# Altium footprint library 5vto3.3v.PcbLib: 6 footprints
Each footprint in its own frame and in the unit in brackets; x right, y up, seen from the top. Pads: shape width x height; smd on the part's side, far side on the other; paste and mask are expansions set on the pad; w line width, h text height; cw(c..) or ccw(c..) is an arc to the next point about the centre after c.
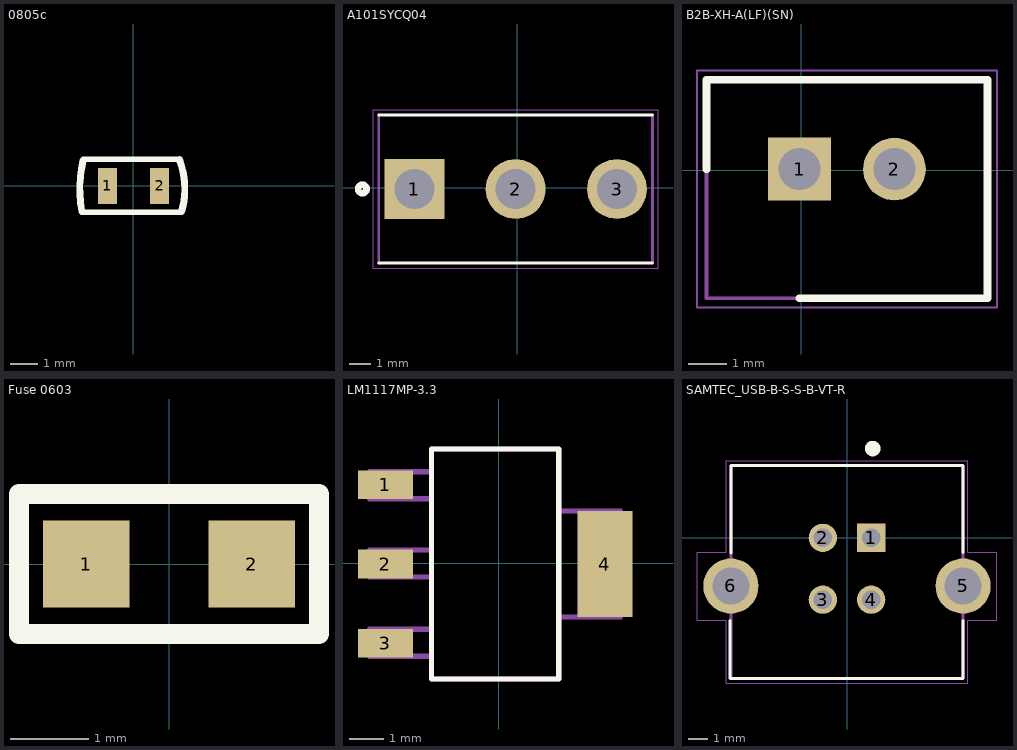
[diagram p0: the footprints below, top view; thin cyan lines are the x and y axes]

## 0805c [mm]
pads (2):
  rect 0.7x1.3 smd: 1(-0.95,0) 2(0.95,0)
Top Overlay:
  lines w0.2: -1.884,-0.955 1.725,-0.955 ; -1.834,0.98 1.679,0.98
  lines w0.254: -1.884,-0.911 cw(c2.397,-0.111) -1.834,0.919 ; 1.672,0.954 cw(c-1.151,-0.11) 1.752,-0.929

## A101SYCQ04 [mil]
pads (3):
  rect 109.5x109.5 hole 73: 1(-188,-2)
  round 109.5 hole 73: 2(-3,-2) 3(182,-2)
Top Overlay:
  circle w11.81: c-283,-1.96 r7.87
  lines w5: -253,-137 247,-137 ; -253,133 247,133
Mechanical 4:
  lines w5: -253,-137 -253,133 -253,-137 ; 247,-137 247,133 247,-137
Mechanical 16:
  lines w1.97: -262.84,-146.84 256.84,-146.84 256.84,142.84 -262.84,142.84 -262.84,-146.84
3D body "c-4-1825136-5-a-3d toggle switch.stp": height 1110.5, standoff -249.5, extent -253,-137 247,133

## B2B-XH-A(LF)(SN) [mm]
pads (2):
  rect 1.65x1.65 / inner round 1.65 / far side rect 1.65x1.65 hole 1.1: 1(-0.051,0.025)
  round 1.65 hole 1.1: 2(2.449,0.025)
Top Overlay:
  lines w0.2: -2.501,0.025 -2.501,2.375 4.899,2.375 4.899,-3.375 -0.051,-3.375
Mechanical 15:
  lines w0.1: -2.501,-3.375 4.899,-3.375 4.899,2.375 -2.501,2.375 -2.501,-3.375
Mechanical 20:
  lines w0.05: -2.751,-3.625 5.149,-3.625 5.149,2.625 -2.751,2.625 -2.751,-3.625
3D body "User Library-XH2_54_ZC_2P.step": height 7, standoff -4, extent -2.501,-3.484 4.899,2.316

## Fuse 0603 [mm]
pads (2):
  rect 1.1x1.1 smd: 1(-1.05,0) 2(1.05,0)
Top Overlay:
  lines w0.254: -1.905,-0.889 1.905,-0.889 1.905,0.889 -1.905,0.889 -1.905,-0.889
3D body: height 2.9, standoff -2.9, extent -0.127,1.27 -0.127,1.27
3D body "User Library-ptc06032-1.step": height 0.75, standoff 0, extent -0.8,-0.381 0.8,0.369

## LM1117MP-3.3 [mil]
pads (4):
  rect 63x33 smd: 1(-130,90) 2(-130,-1) 3(-130,-92)
  rect 63x122 smd: 4(122,-1)
Top Overlay:
  lines w6: -77,-133 69,-133 69,131 -77,131 -77,-133
Mechanical 4:
  lines w6: -148,-107 -148,-76 ; -148,-107 -77,-107 ; -148,-107 -148,-76 ; -148,-107 -77,-107 ; -148,-76 -77,-76 ; -148,-76 -77,-76 ; -148,-16 -148,15 ; -148,-16 -77,-16 ; -148,-16 -148,15 ; -148,-16 -77,-16 ; -148,15 -77,15 ; -148,15 -77,15 ; -148,74 -148,105 ; -148,74 -77,74 ; -148,74 -148,105 ; -148,74 -77,74 ; -148,105 -77,105 ; -148,105 -77,105 ; -77,-133 69,-133 ; -77,-133 -77,131 ; -77,-133 69,-133 ; -77,-133 -77,131 ; -77,-107 -77,-76 ; -77,-107 -77,-76 ; -77,-16 -77,15 ; -77,-16 -77,15 ; -77,74 -77,105 ; -77,74 -77,105 ; -77,131 69,131 ; -77,131 69,131 ; 69,-133 69,131 ; 69,-133 69,131 ; 69,-62 69,60 ; 69,-62 140,-62 ; 69,-62 69,60 ; 69,-62 140,-62 ; 69,60 140,60 ; 69,60 140,60 ; 140,-62 140,60 ; 140,-62 140,60
3D body "User Library-SOT233.step": height 63.49, standoff -3.36, extent -152.7,-132.89 134.7,130.89
3D body: height 10, standoff -236.22, extent -17,203 -17,203

## SAMTEC_USB-B-S-S-B-VT-R [mm]
pads (6):
  rect 1.458x1.458 hole 0.95: 1(1.25,0)
  round 1.458 hole 0.95: 2(-1.25,0) 3(-1.25,-3.2) 4(1.25,-3.2)
  round 2.85 hole 1.9: 5(6,-2.49) 6(-6,-2.49)
Top Overlay:
  circle w0.4: c1.33,4.61 r0.2
  lines w0.152: -6.05,-7.27 -6.05,-4.27 ; -6,-7.27 6,-7.27 6,-4.27 ; -6,-0.78 -6,3.72 ; -6,3.73 6,3.73 6,-0.77
Mechanical 4:
  lines w0.152: -6,-7.27 6,-7.27 ; -6,-7.27 -6,3.73 ; -6,-7.27 6,-7.27 ; -6,-7.27 -6,3.73 ; -6,3.73 6,3.73 ; -6,3.73 6,3.73 ; 6,-7.27 6,3.73 ; 6,-7.27 6,3.73
Mechanical 16:
  lines w0.05: -7.75,-4.25 -7.75,-0.75 -6.25,-0.75 -6.25,3.98 6.25,3.98 6.25,-0.75 7.75,-0.75 7.75,-4.25 6.25,-4.25 6.25,-7.52 -6.25,-7.52 -6.25,-4.25 -7.75,-4.25
3D body: height 0.75, standoff 0, extent -9.728,2.972 -9.728,2.972
3D body "USB B female vertical through out.STEP": height 4.21, standoff -16.11, extent -7.395,-7.278 7.304,3.922